# EAGLE library part RP2040 (library KVM-Keyboard)
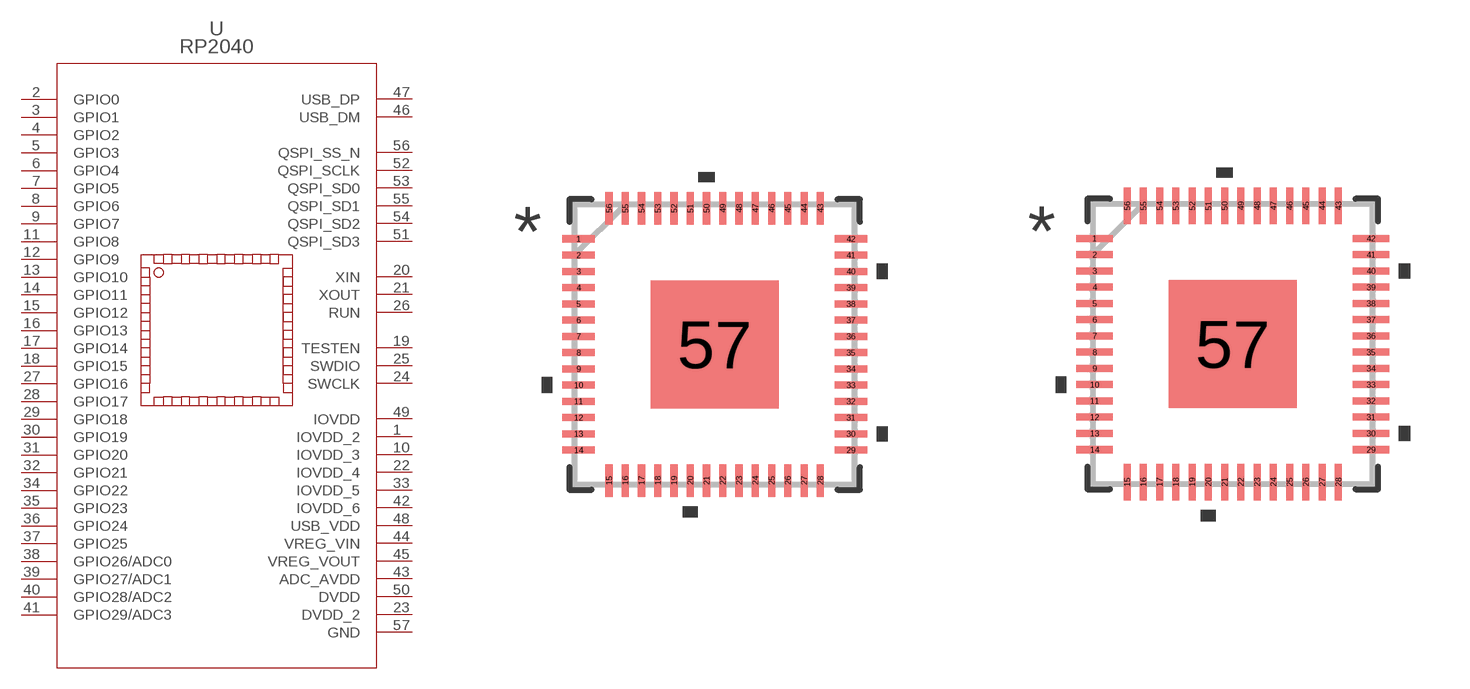
[diagram p6: symbol with the pads of IC57_RP2040; footprints IC57_RP2040, IC57_RP2040-M]

Designator prefix U

## RP2040 (COPYRIGHT: Copyright (C) 2022 Ultra Librarian. All rights reserved.; DIGI-KEY_PART_NUMBER_1: 2648-SC0908(7)TR-ND; DIGI-KEY_PART_NUMBER_2: 2648-SC0908(7)CT-ND; DIGI-KEY_PART_NUMBER_3: 2648-SC0908(7)DKR-ND; MANUFACTURER_PART_NUMBER: SC0908(7); MFR_NAME: Raspberry Pi)  [IC57_RP2040]
1  IOVDD_2  pwr
2  GPIO0
3  GPIO1
4  GPIO2
5  GPIO3
6  GPIO4
7  GPIO5
8  GPIO6
9  GPIO7
10  IOVDD_3  pwr
11  GPIO8
12  GPIO9
13  GPIO10
14  GPIO11
15  GPIO12
16  GPIO13
17  GPIO14
18  GPIO15
19  TESTEN  pas
20  XIN  pas
21  XOUT  out
22  IOVDD_4  pwr
23  DVDD_2  pwr
24  SWCLK  pas
25  SWDIO  pas
26  RUN  pas
27  GPIO16
28  GPIO17
29  GPIO18
30  GPIO19
31  GPIO20
32  GPIO21
33  IOVDD_5  pwr
34  GPIO22
35  GPIO23
36  GPIO24
37  GPIO25
38  GPIO26/ADC0
39  GPIO27/ADC1
40  GPIO28/ADC2
41  GPIO29/ADC3
42  IOVDD_6  pwr
43  ADC_AVDD  pwr
44  VREG_VIN  pas
45  VREG_VOUT  out
46  USB_DM  pas
47  USB_DP  pas
48  USB_VDD  pwr
49  IOVDD  pwr
50  DVDD  pwr
51  QSPI_SD3
52  QSPI_SCLK  pas
53  QSPI_SD0
54  QSPI_SD2
55  QSPI_SD1
56  QSPI_SS_N  pas
57  GND  pas

## RP2040IC57_RP2040-M (COPYRIGHT: Copyright (C) 2022 Ultra Librarian. All rights reserved.; DIGI-KEY_PART_NUMBER_1: 2648-SC0908(7)TR-ND; DIGI-KEY_PART_NUMBER_2: 2648-SC0908(7)CT-ND; DIGI-KEY_PART_NUMBER_3: 2648-SC0908(7)DKR-ND; MANUFACTURER_PART_NUMBER: SC0908(7); MFR_NAME: Raspberry Pi)  [IC57_RP2040-M]
Pads as for IC57_RP2040

## RP2040IC57_RP2040-L (COPYRIGHT: Copyright (C) 2022 Ultra Librarian. All rights reserved.; DIGI-KEY_PART_NUMBER_1: 2648-SC0908(7)TR-ND; DIGI-KEY_PART_NUMBER_2: 2648-SC0908(7)CT-ND; DIGI-KEY_PART_NUMBER_3: 2648-SC0908(7)DKR-ND; MANUFACTURER_PART_NUMBER: SC0908(7); MFR_NAME: Raspberry Pi)  [IC57_RP2040-L]
Pads as for IC57_RP2040

## Footprint IC57_RP2040 (pad centres in mm)
smd 0.813 x 0.178: 1 -3.404,2.642; 2 -3.404,2.235; 3 -3.404,1.829; 4 -3.404,1.422; 5 -3.404,1.016; 6 -3.404,0.61; 7 -3.404,0.203; 8 -3.404,-0.203; 9 -3.404,-0.61; 10 -3.404,-1.016; 11 -3.404,-1.422; 12 -3.404,-1.829; 13 -3.404,-2.235; 14 -3.404,-2.642; 29 3.404,-2.642; 30 3.404,-2.235; 31 3.404,-1.829; 32 3.404,-1.422; 33 3.404,-1.016; 34 3.404,-0.61; 35 3.404,-0.203; 36 3.404,0.203; 37 3.404,0.61; 38 3.404,1.016; 39 3.404,1.422; 40 3.404,1.829; 41 3.404,2.235; 42 3.404,2.642
smd 0.178 x 0.813: 15 -2.642,-3.404; 16 -2.235,-3.404; 17 -1.829,-3.404; 18 -1.422,-3.404; 19 -1.016,-3.404; 20 -0.61,-3.404; 21 -0.203,-3.404; 22 0.203,-3.404; 23 0.61,-3.404; 24 1.016,-3.404; 25 1.422,-3.404; 26 1.829,-3.404; 27 2.235,-3.404; 28 2.642,-3.404; 43 2.642,3.404; 44 2.235,3.404; 45 1.829,3.404; 46 1.422,3.404; 47 1.016,3.404; 48 0.61,3.404; 49 0.203,3.404; 50 -0.203,3.404; 51 -0.61,3.404; 52 -1.016,3.404; 53 -1.422,3.404; 54 -1.829,3.404; 55 -2.235,3.404; 56 -2.642,3.404
smd 3.2 x 3.2: 57 0,0

## Footprint IC57_RP2040-M (pad centres in mm)
smd 0.914 x 0.178: 1 -3.454,2.642; 2 -3.454,2.235; 3 -3.454,1.829; 4 -3.454,1.422; 5 -3.454,1.016; 6 -3.454,0.61; 7 -3.454,0.203; 8 -3.454,-0.203; 9 -3.454,-0.61; 10 -3.454,-1.016; 11 -3.454,-1.422; 12 -3.454,-1.829; 13 -3.454,-2.235; 14 -3.454,-2.642; 29 3.454,-2.642; 30 3.454,-2.235; 31 3.454,-1.829; 32 3.454,-1.422; 33 3.454,-1.016; 34 3.454,-0.61; 35 3.454,-0.203; 36 3.454,0.203; 37 3.454,0.61; 38 3.454,1.016; 39 3.454,1.422; 40 3.454,1.829; 41 3.454,2.235; 42 3.454,2.642
smd 0.178 x 0.914: 15 -2.642,-3.454; 16 -2.235,-3.454; 17 -1.829,-3.454; 18 -1.422,-3.454; 19 -1.016,-3.454; 20 -0.61,-3.454; 21 -0.203,-3.454; 22 0.203,-3.454; 23 0.61,-3.454; 24 1.016,-3.454; 25 1.422,-3.454; 26 1.829,-3.454; 27 2.235,-3.454; 28 2.642,-3.454; 43 2.642,3.454; 44 2.235,3.454; 45 1.829,3.454; 46 1.422,3.454; 47 1.016,3.454; 48 0.61,3.454; 49 0.203,3.454; 50 -0.203,3.454; 51 -0.61,3.454; 52 -1.016,3.454; 53 -1.422,3.454; 54 -1.829,3.454; 55 -2.235,3.454; 56 -2.642,3.454
smd 3.2 x 3.2: 57 0,0

## Footprint IC57_RP2040-L (pad centres in mm)
smd 0.711 x 0.178: 1 -3.353,2.642; 2 -3.353,2.235; 3 -3.353,1.829; 4 -3.353,1.422; 5 -3.353,1.016; 6 -3.353,0.61; 7 -3.353,0.203; 8 -3.353,-0.203; 9 -3.353,-0.61; 10 -3.353,-1.016; 11 -3.353,-1.422; 12 -3.353,-1.829; 13 -3.353,-2.235; 14 -3.353,-2.642; 29 3.353,-2.642; 30 3.353,-2.235; 31 3.353,-1.829; 32 3.353,-1.422; 33 3.353,-1.016; 34 3.353,-0.61; 35 3.353,-0.203; 36 3.353,0.203; 37 3.353,0.61; 38 3.353,1.016; 39 3.353,1.422; 40 3.353,1.829; 41 3.353,2.235; 42 3.353,2.642
smd 0.178 x 0.711: 15 -2.642,-3.353; 16 -2.235,-3.353; 17 -1.829,-3.353; 18 -1.422,-3.353; 19 -1.016,-3.353; 20 -0.61,-3.353; 21 -0.203,-3.353; 22 0.203,-3.353; 23 0.61,-3.353; 24 1.016,-3.353; 25 1.422,-3.353; 26 1.829,-3.353; 27 2.235,-3.353; 28 2.642,-3.353; 43 2.642,3.353; 44 2.235,3.353; 45 1.829,3.353; 46 1.422,3.353; 47 1.016,3.353; 48 0.61,3.353; 49 0.203,3.353; 50 -0.203,3.353; 51 -0.61,3.353; 52 -1.016,3.353; 53 -1.422,3.353; 54 -1.829,3.353; 55 -2.235,3.353; 56 -2.642,3.353
smd 3.2 x 3.2: 57 0,0